# Altium schematic symbol library WS-PBTU.SchLib: 2 symbols
Pins are listed as number, name and electrical type; pins without a type are passive.

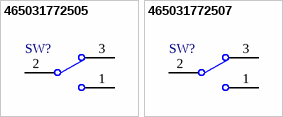
[diagram p0: symbols 465031772505 to 465031772507]

## 465031772505
designator SW?  (value not drawn)
WS-PBTU THT Push Button Switch Right Angled 9.8x18.5 mm, SPDT, ON-(ON), auto-return; Manufacturer: Wurth Elektronik; Manufacturer Part Number: 465031772505; Category: Push Button Switch; Match Code: WS-PBTU; ComponentLink1Description: Website Link; ComponentLink1URL: https://www.we-online.com; ComponentLink2Description: Datasheet Link; ComponentLink2URL: https://www.we-online.com/components/products/datasheet/465031772505; Mount: Through Hole; Operating Temperature Min: -40degC; Operating Temperature Max: 85degC; Packaging: Tray; Length: 18.5mm; Width: 9.8mm; Height: 5.9mm; Actuation Function: auto-return; Schematic: SPDT; Switching Function: ON-(ON)
footprint 465031772505
pins: 1, 2 COM, 3

## 465031772507
designator SW?  (value not drawn)
WS-PBTU THT Push Button Switch Right Angled 18.5 x 5.9 mm, SPDT, ON-(ON), auto-return; Manufacturer: Wurth Elektronik; Manufacturer Part Number: 465031772507; Category: Push Button Switch; Match Code: WS-PBTU; ComponentLink1Description: Website Link; ComponentLink1URL: https://www.we-online.com; ComponentLink2Description: Datasheet Link; ComponentLink2URL: https://www.we-online.com/components/products/datasheet/465031772507; Mount: Through Hole; Operating Temperature Min: -40degC; Operating Temperature Max: 85degC; Packaging: Tray; Length: 25mm; Width: 5.9mm; Height: 10.15mm; Actuation Function: auto-return; Schematic: SPDT; Switching Function: ON-(ON)
footprint 465031772507
pins: 1, 2 COM, 3